# Altium footprint library INF-PG-TO247-3-44.PcbLib: 1 footprints
Each footprint in its own frame and in the unit in brackets; x right, y up, seen from the top. Pads: shape width x height; smd on the part's side, far side on the other; paste and mask are expansions set on the pad; w line width, h text height; cw(c..) or ccw(c..) is an arc to the next point about the centre after c.
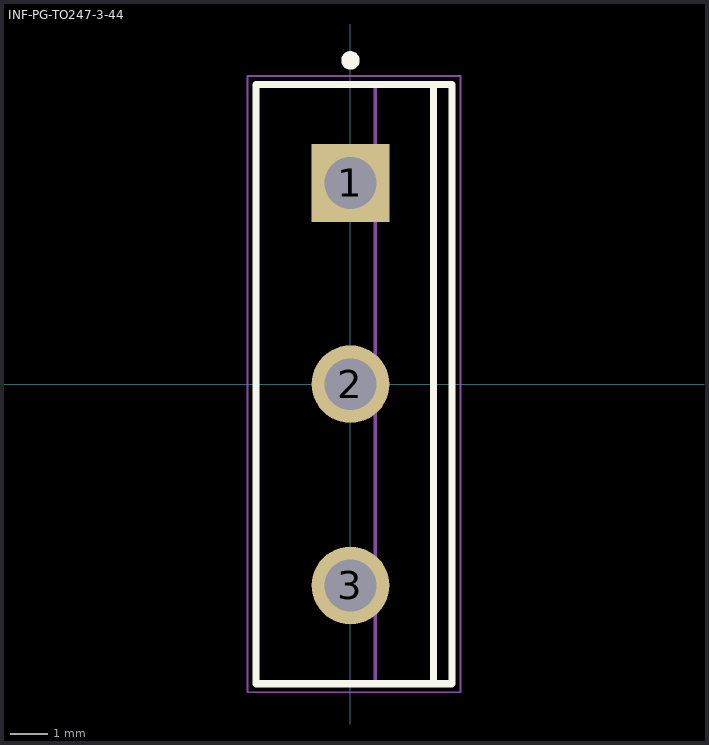
[diagram p0: the footprint, top view; thin cyan lines are the x and y axes]

## INF-PG-TO247-3-44 [mm] "FM, 3-Leads, Body 5.02x15.94mm, Pitch 5.44mm"
height 25.5
pads (3):
  rect 2.1x2.1 hole 1.4: 1(0,5.44)
  round 2.1 hole 1.4: 2(0,0) 3(0,-5.44)
Top Overlay:
  circle w0.25: c0,8.75 r0.125
  lines w0.2: 2.245,-8.1 2.245,8.1 ; -2.555,-8.1 2.745,-8.1 2.745,8.1 -2.555,8.1 -2.555,-8.1
Mechanical 13:
  lines w0.1: 0.67,-8.075 0.67,8.075 ; -2.53,-8.075 -2.53,8.075 2.72,8.075 2.72,-8.075 -2.53,-8.075
Mechanical 15:
  lines w0.05: -2.78,-8.325 -2.78,8.325 2.97,8.325 2.97,-8.325 -2.78,-8.325
  lines w0.1: -0.5,0 0.5,0 ; 0,-0.5 0,0.5
3D body: height 4.1, standoff 0, extent -0.31,4.36 0.31,6.52
3D body: height 0, standoff -1.6, extent -0.31,4.84 0.31,6.04
3D body: height 4.1, standoff 0, extent -0.31,-1.08 0.31,1.08
3D body: height 0, standoff -1.6, extent -0.31,-0.6 0.31,0.6
3D body: height 4.1, standoff 0, extent -0.31,-6.52 0.31,-4.36
3D body: height 0, standoff -1.6, extent -0.31,-6.04 0.31,-4.84
3D body: height 25.5, standoff 4.1, extent -2.53,-8.075 2.72,8.075